# Altium footprint library Mounting Holes1.PcbLib: 4 footprints
Each footprint in its own frame and in the unit in brackets; x right, y up, seen from the top. Pads: shape width x height; smd on the part's side, far side on the other; paste and mask are expansions set on the pad; w line width, h text height; cw(c..) or ccw(c..) is an arc to the next point about the centre after c.
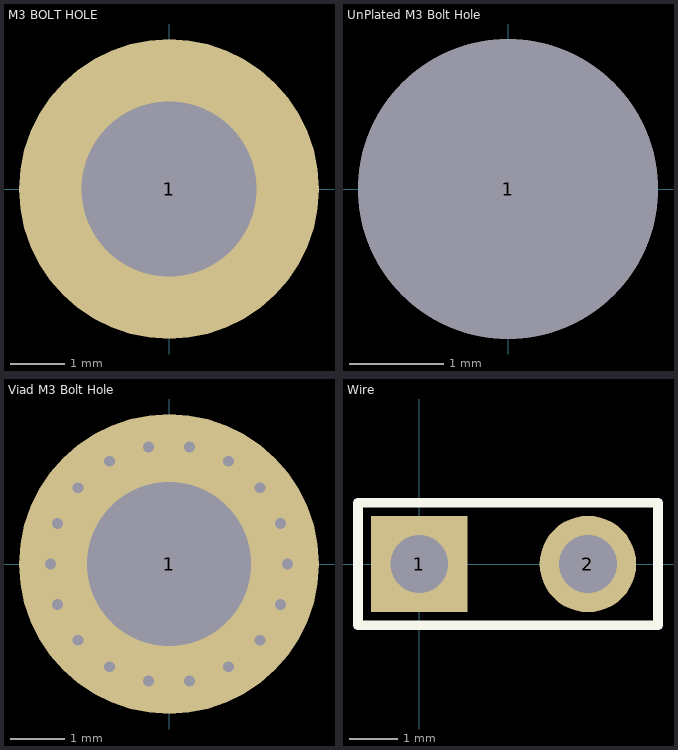
[diagram p0: the footprints below, top view; thin cyan lines are the x and y axes]

## M3 BOLT HOLE [mm]
pads (1):
  round 5.5 hole 3.2: 1(0,0)

## UnPlated M3 Bolt Hole [mm]
pads (1):
  round 3.2 hole 3.2 unplated: 1(0,0)

## Viad M3 Bolt Hole [mm]
pads (1):
  round 5.5 hole 3: 1(0,0)
via 2.044,-0.744 diameter 0.4 hole 0.2
via 1.666,-1.398 diameter 0.4 hole 0.2
via 1.088,-1.884 diameter 0.4 hole 0.2
via 0.378,-2.142 diameter 0.4 hole 0.2
via -0.378,-2.142 diameter 0.4 hole 0.2
via -1.087,-1.884 diameter 0.4 hole 0.2
via -1.666,-1.398 diameter 0.4 hole 0.2
via -2.044,-0.744 diameter 0.4 hole 0.2
via -2.175,0 diameter 0.4 hole 0.2
via -2.044,0.744 diameter 0.4 hole 0.2
via -1.666,1.398 diameter 0.4 hole 0.2
via -1.088,1.884 diameter 0.4 hole 0.2
via -0.378,2.142 diameter 0.4 hole 0.2
via 0.378,2.142 diameter 0.4 hole 0.2
via 1.087,1.884 diameter 0.4 hole 0.2
via 1.666,1.398 diameter 0.4 hole 0.2
via 2.044,0.744 diameter 0.4 hole 0.2
via 2.175,0 diameter 0.4 hole 0.2

## Wire [mm] "Connector; Header; 2 Position"
pads (2):
  rect 2x2 hole 1.2: 1(0,0)
  round 2 hole 1.2: 2(3.5,0)
Top Overlay:
  lines w0.2: -1.27,-1.27 -1.27,1.27 4.953,1.27 4.953,-1.27 -1.27,-1.27